# Altium schematic symbol library QUTMS-BMS-V00.SCHLIB: 59 symbols
Pins are listed as number, name and electrical type; pins without a type are passive.

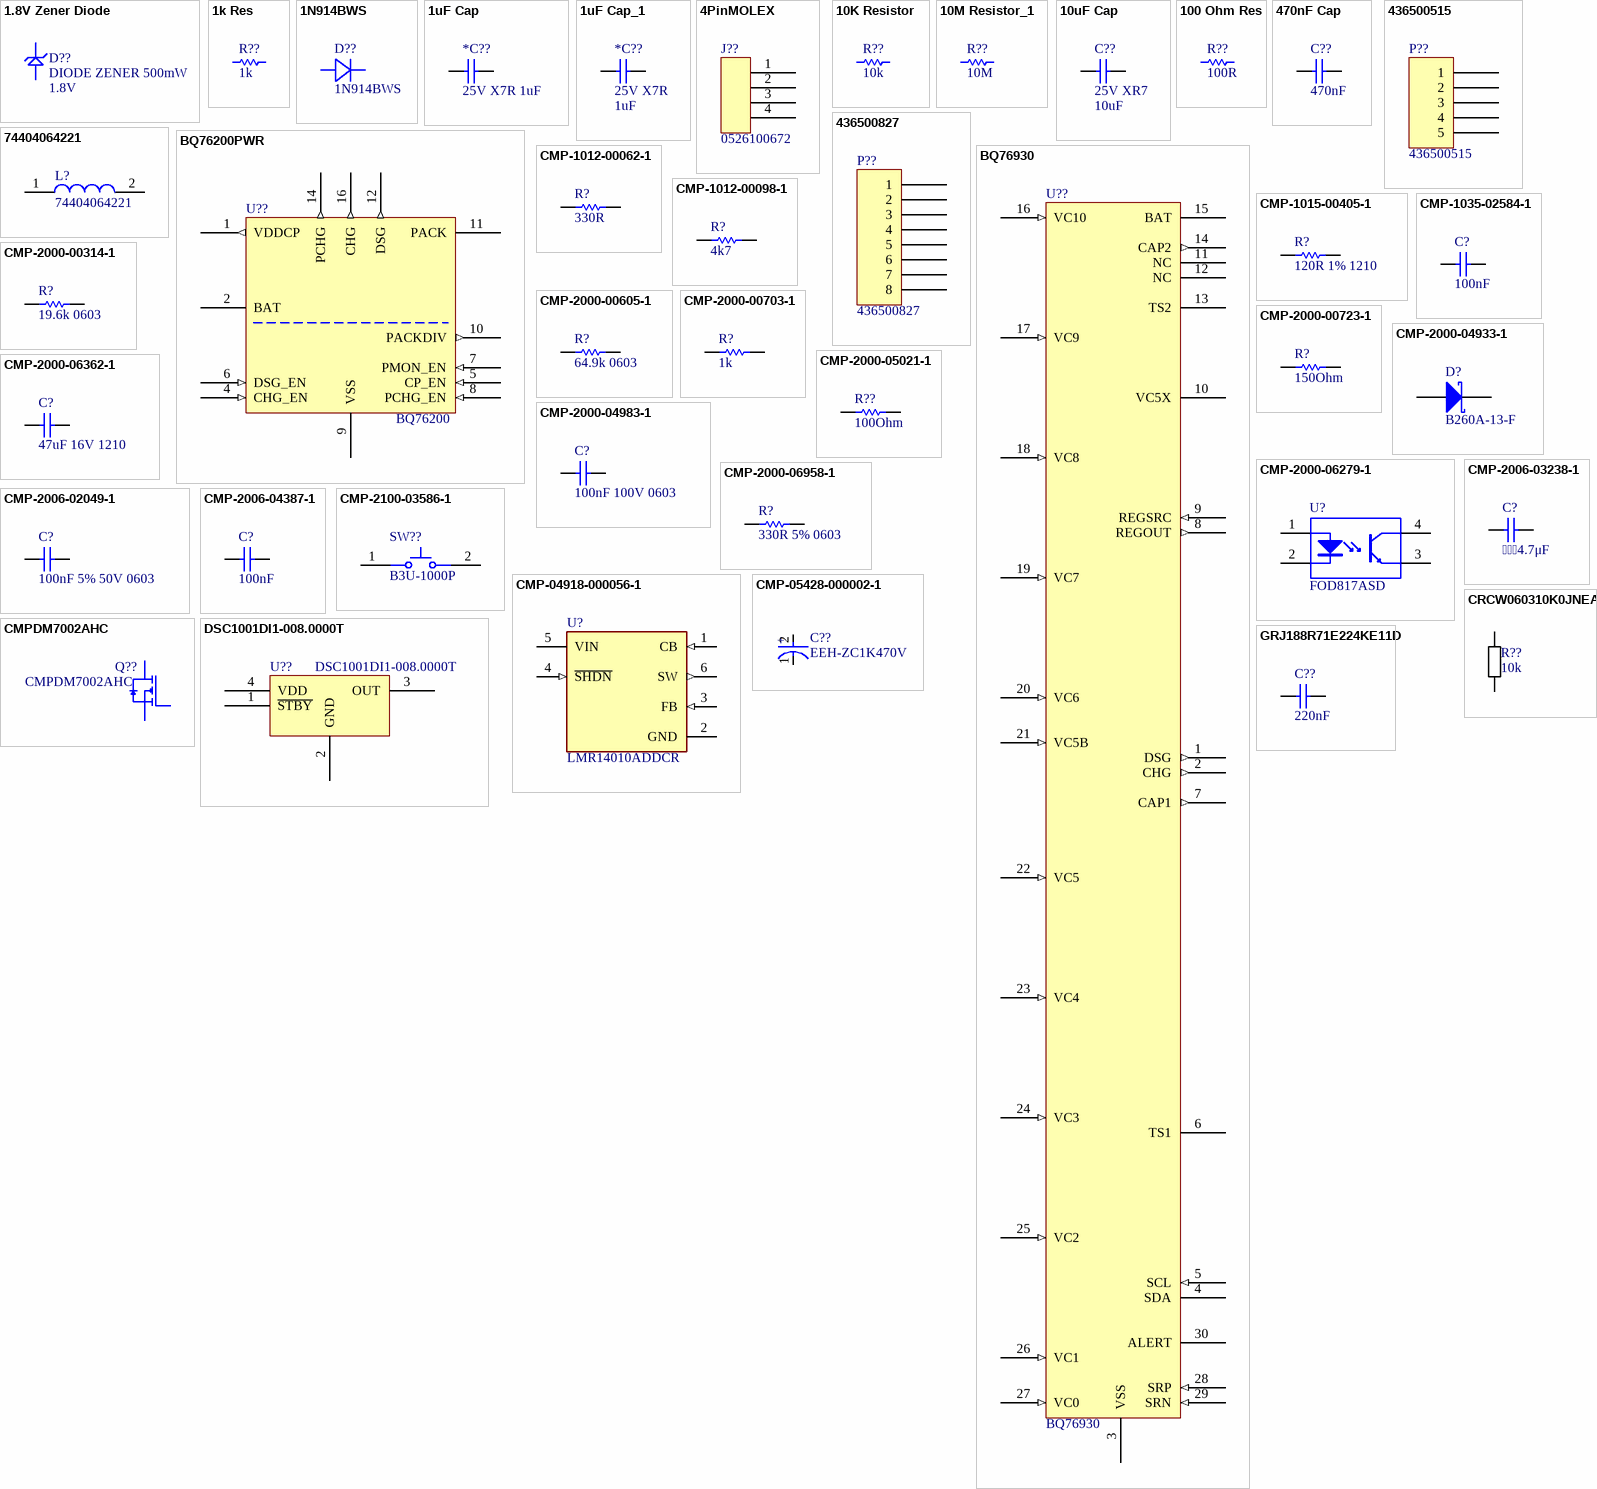
[diagram p0: symbols 1.8V Zener Diode to GRJ188R71E224KE11D]

## 1.8V Zener Diode
designator D??, comment DIODE ZENER 500mW  value 1.8V
Manufacturer: Generic; MPN: 1.8V 500mW
pins: A Anode, K Cathode

## 1k Res
designator R??, comment value 1k  (hidden comment: 1k Resistor)
1k Ohm Resistor 0603 SMD; Manufacturer: Generic; MPN: 0603 SMD
footprint Res_ThinFilm_0603
pins: 1, 2

## 1N914BWS
designator D??
DIODE GEN PURP 75V 150MA SOD323F; Manufacturer: ON Semiconductor / Fairchild; Element Configuration: Single; Forward Voltage: 1V; Max Reverse Leakage Current: 5uA; Power Dissipation: 200mW; Recovery Time: 4ns; Max Forward Surge Current (Ifsm): 4A; Parameter 1: *; Weight: 0.0276g; Average Rectified Current: 150mA; Category: Rectifier Diodes; Contact Plating: Tin,Matte; Forward Current: 150mA; Lead Free: Lead Free; Max Operating Temperature: 150°C; Max Repetitive Reverse Voltage (Vrrm): 75V; Max Reverse Voltage (DC): 75V; Min Operating Temperature: -55°C; Mount: Surface Mount; Number of Pins: 2; Package Quantity: 1; Packaging: Tape and Reel; Peak Reverse Current: 5uA; Radiation Hardening: No; REACH SVHC: No SVHC; Reverse Recovery Time: 4ns; Height: 1mm; Length: 1.8mm; Reverse Voltage: 75V; Width: 1.35mm; Manufacturer Part Number: 1N914BWS
footprint 1N914BWS (DIODE GEN PURP 75V 150MA SOD323F)
pins: A Anode, K Cathode

## 1uF Cap
designator *C??, comment 25V X7R 1uF
1UF CAP CER  25V X7R 0603; Manufacturer: Yageo; Manufacturer Part Number: CC0603KRX5R8BB105; Tolerance: 10%; Dielectric: X5R; Max Operating Temperature: 85°C; Min Operating Temperature: -55°C; Mount: Surface Mount; Package Quantity: 1; Packaging: Tape and Reel; Radiation Hardening: No; Thickness: 0.035inch; Voltage: 25V; Voltage Rating: 25V; Width: 0.031inch; Capacitance: 1uF; Case Code (Imperial): 0603; Case Code (Metric): 1608; Case/Package: 0603; Category: Ceramic Capacitors; Depth: 0.8mm; Halogen Free: Halogen Free; Height: 0.8mm; Lead Free: Lead Free; Length: 1.6mm; Number of Pins: 2; REACH SVHC: No SVHC; Termination: SMD/SMT; Voltage Rating (DC): 25V
pins: 0, 1

## 1uF Cap_1
designator *C??, comment 25V X7R  Capacitance: 1uF
1UF CAP CER  25V X7R 0603; Manufacturer: Yageo; Manufacturer Part Number: CC0603KRX5R8BB105; Tolerance: 10%; Dielectric: X5R; Max Operating Temperature: 85°C; Min Operating Temperature: -55°C; Mount: Surface Mount; Package Quantity: 1; Packaging: Tape and Reel; Radiation Hardening: No; Thickness: 0.035inch; Voltage: 25V; Voltage Rating: 25V; Width: 0.031inch; Case Code (Imperial): 0603; Case Code (Metric): 1608; Case/Package: 0603; Category: Ceramic Capacitors; Depth: 0.8mm; Halogen Free: Halogen Free; Height: 0.8mm; Lead Free: Lead Free; Length: 1.6mm; Number of Pins: 2; REACH SVHC: No SVHC; Termination: SMD/SMT; Voltage Rating (DC): 25V
pins: 0, 1

## 4PinMOLEX
designator J??, comment 0526100672
footprint 522710479 (Easy-On FFC/FPC Connector, 1.00mm Pitch, Slider Series, Right-Angle, Bottom Contact, 3.00mm Height, 6 Circuits, Tin-Bismuth Plating)
pins: 1 0, 2 1, 3 2, 4 3

## 10K Resistor
designator R??, comment 10k
10 kOhms ±5% 0.1W, 1/10W Chip Resistor 0603 (1608 Metric) Thick Film; Manufacturer: Vishay Dale; Manufacturer Part Number: CRCW060310K0JNEA; Max Power Dissipation: 100mW; Resistance: 10kR; Temperature Coefficient: 200ppm/°C; Voltage Rating: 75V; Case Code (Imperial): 0603; Case Code (Metric): 1608; Case/Package: 0603; Category: Chip SMD Resistors; Composition: Thick Film; Contact Plating: Tin; Depth: 0.85mm; Features: Automotive AEC-Q200; Height: 0.02inch; Lead Free: Lead Free; Length: 1.55mm; Max Operating Temperature: 155°C; Military Standard: Not; Min Operating Temperature: -55°C; Mount: Surface Mount; Number of Pins: 2; Number of Terminations: 2; Package Quantity: 1; Packaging: Tape and Reel; Power Rating: 100mW; Radiation Hardening: No; REACH SVHC: Unknown; Termination: SMD/SMT; Tolerance: 5%; Voltage Rating (DC): 75V; Weight: 7.1E-05oz; Width: 0.033inch
footprint Res_ThinFilm_0603
pins: 1, 2

## 10M Resistor_1
designator R??, comment 10M
10 MOhms ±5% 0.1W, 1/10W Chip Resistor 0603 (1608 Metric) Thick Film; Manufacturer: Vishay Dale; Manufacturer Part Number: CRCW060310K0JNEA; Max Power Dissipation: 100mW; Resistance: 10kR; Temperature Coefficient: 200ppm/°C; Voltage Rating: 75V; Case Code (Imperial): 0603; Case Code (Metric): 1608; Case/Package: 0603; Category: Chip SMD Resistors; Composition: Thick Film; Contact Plating: Tin; Depth: 0.85mm; Features: Automotive AEC-Q200; Height: 0.02inch; Lead Free: Lead Free; Length: 1.55mm; Max Operating Temperature: 155°C; Military Standard: Not; Min Operating Temperature: -55°C; Mount: Surface Mount; Number of Pins: 2; Number of Terminations: 2; Package Quantity: 1; Packaging: Tape and Reel; Power Rating: 100mW; Radiation Hardening: No; REACH SVHC: Unknown; Termination: SMD/SMT; Tolerance: 5%; Voltage Rating (DC): 75V; Weight: 7.1E-05oz; Width: 0.033inch
footprint Res_ThinFilm_0603
pins: 1, 2

## 10uF Cap
designator C??, comment 25V XR7  value 10uF
10uF 25V XR7; MPN: 25V XR7 10uF 0603; Mnaufacturer: Generic
footprint Cap_Ceramic_0603
pins: 0, 1

## 100 Ohm Res
designator R??, comment 100R
100 Ohm Res; Manufacturer: Generic; MPN: Resistor, SMD 10k 1% 0603; Value: 100R
footprint Res_ThinFilm_0603
pins: 1, 2

## 470nF Cap
designator C??, comment 470nF
pins: 0, 1

## 436500515
designator P??
pins: 1, 2, 3, 4, 5

## 436500827
designator P??
Micro-Fit 3.0 Vertical Header, 3.00mm Pitch, Single Row, 8 Circuits, with PCB Polarizing Peg, Tin, Glow-Wire Capable, Black
pins: 1, 2, 3, 4, 5, 6, 7, 8

## 74404064221
designator L?
FIXED IND 220UH 660MA 850 MOHM; ComponentLink1Description: Digikey; ComponentLink1URL: https://www.digikey.com.au/product-detail/en/w%C3%BCrth-elektronik/74404064221/732-7261-1-ND/5353241; ComponentLink2Description: LCSC A; ComponentLink2URL: https://lcsc.com/product-detail/Power-Inductors_Sunlord-SWPA6045S221MT_C91047.html; ComponentLink3Description: LCSC B; ComponentLink3URL: https://lcsc.com/product-detail/Power-Inductors_SXN-Shun-Xiang-Nuo-Elec-SMNR6045-221MT_C467145.html
footprint Inductor_6x6mm
pins: 1, 2

## BQ76200PWR
designator U??, comment BQ76200
High-voltage battery pack front-end charge/discharge high-side NFET driver; MPN: BQ76200PWR; Manufacturer: Texas Instruments
footprint TSSOP16
pins: 1 VDDCP (out), 2 BAT, 4 CHG_EN (in), 5 CP_EN (in), 6 DSG_EN (in), 7 PMON_EN (in), 8 PCHG_EN (in), 9 VSS, 10 PACKDIV (out), 11 PACK, 12 DSG (out), 14 PCHG (out), 16 CHG (out)

## BQ76930
designator U??
Battery Monitoring/Fuel Gauge Li-Ion/Li-Polymer/LiFePO4 0V to 16V 30-Pin TSSOP T/R; InternalPart: Test1234; Manufacturer: Texas Instruments; Manufacturer Part Number: BQ7693003DBTR; Operating Supply Voltage: 25V; Interface: I2C; Fault Protection: Over Current,Short Circuit,Over/Under Voltage; Supplier 1: Digi-Key; RoHS: Yes; Category: Battery Management; Stock 1: 4521; Pricing 1: 1=4.66000, 10=4.18900, 25=3.96000, 100=3.25600, 250=2.92160, 500=2.81600, 1000=2.34080 (USD); Mount: Surface Mount; Case/Package: TFSOP; Number of Pins: 30; Weight: 0.003439oz; Contact Plating: Gold; Min Operating Temperature: -40°C; Max Operating Temperature: 85°C; Output Voltage: 16V; Packaging: Tape and Reel; Package Quantity: 2000; Lead Free: Lead Free; ComponentLink1URL: http://www.ti.com/lit/gpn/bq76930?src-supplier=Mouser; ComponentLink1Description: http://www.ti.com/lit/gpn/bq76930?src-supplier=Mouser; ComponentLink2URL: http://www.ti.com/lit/ds/symlink/bq76930.pdf?src-supplier=Digi-Key; ComponentLink2Description: http://www.ti.com/lit/ds/symlink/bq76930.pdf?src-supplier=Digi-Key; ComponentLink3URL: http://www.ti.com/lit/pdf/slpt038?src-supplier=Digi-Key; ComponentLink3Description: http://www.ti.com/lit/pdf/slpt038?src-supplier=Digi-Key; ComponentLink4URL: http://www.ti.com/general/docs/lit/getliterature.tsp?genericPartNumber=BQ76920&amp;&amp;fileType=pdf&src-supplier=Avnet+Asia; ComponentLink4Description: http://www.ti.com/general/docs/lit/getliterature.tsp?genericPartNumber=BQ76920&amp;&amp;fileType=pdf&src-supplier=Avnet+Asia; ComponentLink5URL: http://www.ti.com/general/docs/lit/getliterature.tsp?genericPartNumber=BQ76920&&fileType=pdf&src-supplier=Avnet; ComponentLink5Description: http://www.ti.com/general/docs/lit/getliterature.tsp?genericPartNumber=BQ76920&&fileType=pdf&src-supplier=Avnet; Supplier Part Number 1: 296-39961-1-ND
footprint TSSOP50P640X120-30N (TSSOP, 30-Leads, Body 7.80x4.40mm, Pitch 0.50mm, IPC Medium Density)
pins: 1 DSG (out) "Discharge FET driver", 2 CHG (out) "Charge Fet driver", 3 VSS (power) "Chip VSS", 4 SDA "I2C communication to the host controller", 5 SCL (in) "I2C communication to the host controller", 6 TS1 "Thermister #1 positive terminal", 7 CAP1 (out) "Capacitor to VSS", 8 REGOUT (out) "Output LDO", 9 REGSRC (in) "Input source for output LDO", 10 VC5X (power) "Thermistor #2 negative terminal", 11 NC (power) "No connect (short to cap2)", 12 NC (power) "No connect (short to cap2)", 13 TS2 "Thermister #2 positive terminal", 14 CAP2 (out) "Capacitor to VC5X", 15 BAT (power) "Battery Top Most terminal", 16 VC10 (in) "Sense voltage for 10th cell positive terminal", 17 VC9 (in) "Sense voltage for 9th cell positive terminal", 18 VC8 (in) "Sense voltage for 8th cell positive terminal", 19 VC7 (in) "Sense voltage for 7th cell positive terminal", 20 VC6 (in) "Sense voltage for 6th cell positive terminal", 21 VC5B (in) "Sense voltage for 6th cell negative terminal", 22 VC5 (in) "Sense voltage for 5th cell positive terminal", 23 VC4 (in) "Sense voltage for 4th cell positive terminal", 24 VC3 (in) "Sense voltage for 3rd cell positive terminal", 25 VC2 (in) "Sense voltage for 2nd cell positive terminal", 26 VC1 (in) "Sense voltage for 1st cell positive terminal", 27 VC0 (in) "Sense voltage for 1st cell negative terminal", 28 SRP (in) "Negative current sense (nearest VSS)", 29 SRN (in) "Positive current sense", 30 ALERT "Alert ouput and override input"

## CMP-1012-00062-1
designator R?, comment 330R
330R 0.1W 5% 0603 (1608 Metric)  SMD; Manufacturer: Vishay; Manufacturer Part Number: CRCW0603330RJNEA; Manufacturer: Bourns; Manufacturer Part Number: CR0603-JW-331ELF; Manufacturer: Vishay Dale; Manufacturer Part Number: CRCW0603330RJNEB; Manufacturer: Yageo; Manufacturer Part Number: RC0603JR-07330RL; Manufacturer Part Number: CRCW0603330RJNEC; Manufacturer Part Number: CRCW0603330RJNTB; Manufacturer: Panasonic; Manufacturer Part Number: ERJ-3GEYJ331V; Manufacturer Part Number: CRCW0603330RJNTA; Value: 330.00 Ohm; Case-EIA: 0603; Case-Metric: 1608; Tolerance: 5 %; Power: 0.1 W; Technology: SMT
footprint RESC0603(1608)_L (Chip Resistor, Body 1.6x0.8mm, IPC High Density)
footprint RESC0603(1608)_M (Chip Resistor, Body 1.6x0.8mm, IPC Low Density)
footprint RESC0603(1608)_N (Chip Resistor, Body 1.6x0.8mm, IPC Medium Density)
pins: 1, 2
1 alternate drawing of the same symbol

## CMP-1012-00098-1
designator R?, comment 4k7
10K 0.1W 5% 0603 (1608 Metric)  SMD; Manufacturer: Bourns; Manufacturer Part Number: CR0603-JW-103ELF; Manufacturer: Vishay Dale; Manufacturer Part Number: CRCW060310K0JNTB; Manufacturer Part Number: CRCW060310K0JNTC; Manufacturer Part Number: CRCW060310K0JNEC; Manufacturer Part Number: CRCW060310K0JNTA; Manufacturer: Yageo; Manufacturer Part Number: RC0603JR-0710KL; Manufacturer Part Number: CRCW060310K0JNEA; Manufacturer: Panasonic; Manufacturer Part Number: ERJ-3GEYJ103V; Manufacturer Part Number: CRCW060310K0JNEB; Case-EIA: 0603; Value: 10000.00 Ohm; Case-Metric: 1608; Technology: SMT; Tolerance: 5 %; Power: 0.1 W
footprint RESC0603(1608)_N (Chip Resistor, Body 1.6x0.8mm, IPC Medium Density)
footprint RESC0603(1608)_L (Chip Resistor, Body 1.6x0.8mm, IPC High Density)
footprint RESC0603(1608)_M (Chip Resistor, Body 1.6x0.8mm, IPC Low Density)
pins: 1, 2
1 alternate drawing of the same symbol

## CMP-1015-00405-1
designator R?, comment 120R 1% 1210
120R 0.5W 1% 1210 (3225 Metric)  SMD; Manufacturer: Vishay; Manufacturer Part Number: CRCW1210120RFKEA; Manufacturer: Yageo; Manufacturer Part Number: RC1210FR-07120RL; Manufacturer: Vishay Dale; Manufacturer Part Number: CRCW1210120RFKTA; Manufacturer: Panasonic; Manufacturer Part Number: ERJ-14NF1200U; Case-Metric: 3225; Value: 120.00 Ohm; Case-EIA: 1210; Technology: SMT; Tolerance: 1 %; Power: 0.5 W
footprint RESC1210(3225)_M (Chip Resistor, Body 3.2x2.5mm, IPC Low Density)
footprint RESC1210(3225)_L (Chip Resistor, Body 3.2x2.5mm, IPC High Density)
footprint RESC1210(3225)_N (Chip Resistor, Body 3.2x2.5mm, IPC Medium Density)
pins: 1, 2
1 alternate drawing of the same symbol

## CMP-1035-02584-1
designator C?, comment 100nF
CAP 100nF 16V ±10% 0603 (1608 Metric) Thickness 1mm SMD; Manufacturer: TDK; Manufacturer Part Number: C1608X7R1C104K; Manufacturer: Vishay; Manufacturer Part Number: VJ0603Y104KXJCW1BC; Manufacturer: Kyocera AVX; Manufacturer Part Number: 0603YC104KAT7A; Manufacturer Part Number: 0603YC104KAT9A; Manufacturer: Vishay Vitramon; Manufacturer Part Number: VJ0603Y104KXJPW1BC; Manufacturer Part Number: 0603YC104KAT2A; Manufacturer: KEMET; Manufacturer Part Number: C0603C104K4RACTU; Manufacturer Part Number: VJ0603Y104KNJAO; Manufacturer: Yageo; Manufacturer Part Number: CC0603KRX7R7BB104; Manufacturer Part Number: C0603C104K4RACTM; Manufacturer Part Number: VJ0603Y104KXJAP; Manufacturer Part Number: VJ0603Y104KXJAC; Manufacturer Part Number: CC0603KPX7R7BB104; Manufacturer Part Number: 0603YC104KAT4A; Manufacturer Part Number: C0603C104K4RAC; Tolerance: Â±10%; Case-EIA: 0603; Case-Metric: 1608; Technology: SMT; Max Thickness: 1 mm; Value: 100nF; Rated Voltage: 16 V
footprint CAPC0603(1608)100_N (Chip Capacitor, Body 1.6x0.8mm, Height 1.0mm, IPC Medium Density)
footprint CAPC0603(1608)100_L (Chip Capacitor, Body 1.6x0.8mm, Height 1.0mm, IPC High Density)
footprint CAPC0603(1608)100_M (Chip Capacitor, Body 1.6x0.8mm, Height 1.0mm, IPC Low Density)
pins: 1, 2
1 alternate drawing of the same symbol

## CMP-2000-00314-1
designator R?, comment 19.6k 0603
Part Number: ERJ-3EKF1962V; Manufacturer: Panasonic; Manufacturer Part Number: ERJ3EKF1962V
footprint RESC1608X55X30ML15T15 (Chip Resistor, 2-Leads, Body 1.60x0.80mm, IPC Low Density)
footprint RESC1608X55X30NL15T15 (Chip Resistor, 2-Leads, Body 1.60x0.80mm, IPC Medium Density)
footprint RESC1608X55X30LL15T15 (Chip Resistor, 2-Leads, Body 1.60x0.80mm, IPC High Density)
pins: 1, 2
1 alternate drawing of the same symbol

## CMP-2000-00605-1
designator R?, comment 64.9k 0603
Part Number: ERJ-3EKF6492V; Manufacturer: Panasonic; Manufacturer Part Number: ERJ-3EKF6492V
footprint RESC1608X55X30ML15T15 (Chip Resistor, 2-Leads, Body 1.60x0.80mm, IPC Low Density)
footprint RESC1608X55X30NL15T15 (Chip Resistor, 2-Leads, Body 1.60x0.80mm, IPC Medium Density)
footprint RESC1608X55X30LL15T15 (Chip Resistor, 2-Leads, Body 1.60x0.80mm, IPC High Density)
pins: 1, 2
1 alternate drawing of the same symbol

## CMP-2000-00703-1
designator R?, comment 1k
Part Number: ERJ-3GEYJ102V; Manufacturer: Panasonic; Manufacturer Part Number: ERJ-3GEYJ102V
footprint RESC1608X55X30ML15T15 (Chip Resistor, 2-Leads, Body 1.60x0.80mm, IPC Low Density)
footprint RESC1608X55X30NL15T15 (Chip Resistor, 2-Leads, Body 1.60x0.80mm, IPC Medium Density)
footprint RESC1608X55X30LL15T15 (Chip Resistor, 2-Leads, Body 1.60x0.80mm, IPC High Density)
pins: 1, 2
1 alternate drawing of the same symbol

## CMP-2000-00723-1
designator R?, comment 150Ohm
Part Number: ERJ-3GEYJ151V; Manufacturer: Panasonic; Manufacturer Part Number: ERJ-3GEYJ151V
footprint RESC1608X55X30NL15T15 (Chip Resistor, 2-Leads, Body 1.60x0.80mm, IPC Medium Density)
footprint RESC1608X55X30LL15T15 (Chip Resistor, 2-Leads, Body 1.60x0.80mm, IPC High Density)
footprint RESC1608X55X30ML15T15 (Chip Resistor, 2-Leads, Body 1.60x0.80mm, IPC Low Density)
pins: 1, 2
1 alternate drawing of the same symbol

## CMP-2000-04933-1
designator D?, comment B260A-13-F
Schottky Barrier Rectifier, 60 V, 2 A, -65 to 150 degC, 2-Pin SMA, RoHS, Tape and Reel; Manufacturer: Diodes; If - Forward Current: 2A; Vf - Forward Voltage: 0.7V; Ir - Reverse Current: 500uA; Configuration: Single; Unit Weight: 0.002258oz; Brand: DiodesIncorporated; Vrrm - Repetitive Reverse Voltage: 60V; Ifsm - Forward Surge Current: 50A; Product Category: SchottkyDiodes&Rectifiers; Datasheet Version: Rev. 22-2, 07/2015; Maximum Operating Temperature: +150C; Product: SchottkyDiodes; Minimum Operating Temperature: -65C; Operating Temperature Range: -65Cto+150C; Termination Style: SMD/SMT; Package / Case: SMA; Factory Pack Quantity: 5000; Technology: Si; Height: 2.1mm; Type: SchottkyBarrierRectifier; Manufacturer URL: http://www.diodes.com/; Datasheet URL: http://www.diodes.com/_files/datasheets/ds13004.pdf; RoHS: True; Mounting Style: SMD/SMT; Length: 4.6mm; Series: B260; Package Reference: SMA-2; Packaging: Reel; Width: 2.92mm; Manufacturer: DiodesIncorporated; Package Description: 2-Pin Surface Mounted Assembly, Body 4.3 x 2.605 mm, Height 2.4 mm; Manufacturer Part Number: B260A-13-F
footprint DIOD-SMA-2_V
pins: 1 A, 2 K

## CMP-2000-04983-1
designator C?, comment 100nF 100V 0603
Chip Capacitor, 100 nF, +/- 10%, 100 V, -55 to 125 degC, 0603 (1608 Metric), RoHS, Tape and Reel; PCN Part Number: MLCCPartNumberChange30/Nov/2012; Manufacturer: TDK; Manufacturer Part Number: CGA3E3X7S2A104K080AB; Capacitance: 0.1µF; Kits: 445-9007-KIT-ND-KITCAPCERAUTO100V-600VSMD445-9006-KIT-ND-KITCAPCERAUTO100V-630VSMDSAMPLEKIT1006-ND-KITCAPCERAUTO100V-630V; Online Catalog: CGASeries,AutomotiveGeneral,MidandHighVoltage; Product Training Modules: CGASeriesforAutomotiveApplicationsSEAT,CCV,andTVCLDesignToolsGuidetoReplacinganElectrolyticCapacitorwithanMLCC; Featured Product: CGASeriesMLCCCapacitors; Other Names: 445-6938-1; Temperature Coefficient: X7S; RoHS Information: RoHSCertificate-MLCC; Package / Case: 0603(1608Metric); Mounting Type: SurfaceMount,MLCC; Size / Dimension: 0.063"Lx0.031"W(1.60mmx0.80mm); Applications: Automotive; Series: CGA; Package Reference: 603; Voltage - Rated: 100V; Lead Style: -; Datasheet URL: https://ciiva.com/datasheet-click-20384029?src=ciiva&sig=1463c8bc; Thickness (Max): 0.035"(0.90mm); Ratings: AEC-Q200; Standard Package: 1; Features: -; Family: CeramicCapacitors; Category: Capacitors; Tolerance: ±10%; Datasheet Version: Jan-16; Operating Temperature: -55degC~125degC; Manufacturer URL: http://www.tdk.com/; Packaging: CutTape(CT); Lead Spacing: -; Package Description: 2-Pin Surface Mount Device, Body 1.6 x 0.8 mm; Height - Seated (Max): -
footprint CAPC1608X90X20ML10 (Chip Capacitor, 2-Leads, Body 1.70x0.90mm, IPC Low Density)
footprint CAPC1608X90X20NL10 (Chip Capacitor, 2-Leads, Body 1.70x0.90mm, IPC Medium Density)
footprint CAPC1608X90X20LL10
pins: 1, 2

## CMP-2000-05021-1
designator R??, comment 100Ohm
Chip Resistor, 100 Ohm, +/- 5%, 50 V, 0603 (1608 Metric), RoHS, Tape and Reel; Manufacturer: Yageo; Manufacturer Part Number: RC0603JR-07100RL; Temperature Coefficient: 100PPM/C; Resistance: 100Ohms; Power Rating: 100mW; Voltage Rating: 50V; Manufacturer URL: http://www.yageo.com/; Product: ThickFilmResistorsGeneralPurpose; Package Description: 2-Pin Surface Mount Device, Body 1.6 x 0.8 mm; Tolerance: 5%; Termination Style: SMD/SMT; Datasheet URL: http://www.farnell.com/datasheets/443971.pdf; Operating Temperature Range: -55Cto+155C; Packaging: Reel; Case Code - in: 0603; Package Reference: 603; Series: RC; Case Code - mm: 1608; Datasheet Version: Rev. 4, 04/2009
footprint RESC1608X55X25ML10T15 (Chip Resistor, 2-Leads, Body 1.60x0.80mm, IPC Low Density)
footprint RESC1608X55X25NL10T15 (Chip Resistor, 2-Leads, Body 1.70x0.90mm, IPC Medium Density)
footprint RESC1608X55X25LL10T15 (Chip Resistor, 2-Leads, Body 1.60x0.80mm, IPC High Density)
pins: 1, 2

## CMP-2000-06279-1
designator U?, comment FOD817ASD
Phototransistor Optocoupler, 4 us Rise, 3 us Fall, 5000 Vrms, -55 to 110 degC, 4-Pin MDIP, RoHS, Tape and Reel; Manufacturer: Fairchild Semiconductor; Manufacturer: ON Semiconductor / Fairchild; Maximum Input Current: 50mA; Maximum Forward Voltage: 1.4V; Maximum Reverse Voltage: 6V; Product Width: 7mm(Max); Input Type: DC; Maximum Current Transfer Ratio: 160%; Maximum Rise Time: 18us; Typical Rise Time: 4us; Typical Forward Voltage: 1.2V; Product Length: 5.1mm(Max); Package Version: 10/2014; Maximum Collector Emitter Saturation Voltage: 200mV; Number of Channels per Chip: 1; Product Height: 4mm(Max); Maximum Power Dissipation: 200mW; Typical Fall Time: 3us; Maximum Collector Emitter Voltage: 70V; Pin_Count: 4; Minimum Current Transfer Ratio: 80%; Output Device: Transistor; Manufacturer URL: https://www.fairchildsemi.com/; Family: FOD817; Supplier_Package: PDIPSMDBlack; Datasheet URL: https://www.fairchildsemi.com/datasheets/FO/FOD817.pdf; Package Description: 4-Pin Surface Mount Device, Body 6.5 x 4.6 mm, Pitch 2.54 mm; Mounting Technology: SurfaceMount; Package Reference: MDIP 4L; Maximum Operating Temperature: 110C; Mounting: SurfaceMount; Maximum Fall Time: 18us; Package URL: https://www.fairchildsemi.com/package-drawings/N0/N04C.pdf; Product Type: TransistorandPhotovoltaicOutputPhotoCouplers; Datasheet Version: Rev. 2.8, 11/2015; Minimum Operating Temperature: -55C; Maximum Collector Current: 50mA; Packaging: TapeandReel; Minimum Isolation Voltage: 5000Vrms; Output Type: DC; Manufacturer Part Number: FOD817ASD
footprint FAIR-MDIP-4_V (SMD, 4-Leads, Body 6.5x4.6mm, Pitch 2.54mm)
pins: 1 ANODE, 2 CATHODE, 3 EMITTER, 4 COLLECTOR

## CMP-2000-06362-1
designator C?, comment 47uF 16V 1210
Cap Ceramic, 47 uF, +/- 10%, -55 to 85 degC, 2-Pin SMD (1210), RoHS, Tape and Reel; Manufacturer: Murata; Manufacturer Part Number: GRM32ER61C476KE15L; Catalog Drawings: GRMSeries_1210_2.5; Capacitance: 47µF; Product Training Modules: High-CapMultilayerCeramicCapacitors; Temperature Coefficient: X5R; Online Catalog: GRMSeries; Other Names: 490-6539-6; Lead Style: -; Voltage Rating DC: 16V; Datasheet URL: http://psearch.en.murata.com/capacitor/product/GRM32ER61C476KE15%23.pdf; Package Description: 2-Pin Surface Mount Device, Body 3.2 x 2.5 mm; Applications: GeneralPurpose; Thickness (Max): 0.106"(2.70mm); Operating Temperature: -55°C~85°C; Mounting Technology: SurfaceMount; Category: Capacitors; Package / Case: 1210(3225Metric); Mounting Type: SurfaceMount,MLCC; Ratings: -; Package Reference: 1210; Height - Seated (Max): -; Series: GRM; Lead Spacing: -; Family: CeramicCapacitors; Datasheet Version: 04/2016; Tolerance: ±10%; Size / Dimension: 0.126"Lx0.098"W(3.20mmx2.50mm); Packaging: Digi-Reel®; Voltage - Rated: 16V; Standard Package: 1; Features: -; Manufacturer URL: http://www.murata.com/
footprint MURA-1210_H_2.7_L (Chip Capacitor, 2-Leads, Body 3.5x2.7mm, IPC High Density)
footprint MURA-1210_H_2.7_M (Chip Capacitor, 2-Leads, Body 3.5x2.7mm, IPC Low Density)
footprint MURA-1210_H_2.7_N (Chip Capacitor, 2-Leads, Body 3.5x2.7mm, IPC Medium Density)
pins: 1, 2

## CMP-2000-06958-1
designator R?, comment 330R 5% 0603
Chip Resistor, 330 Ohm, +/- 5%, 50 V, -55 to 155 degC, 0603 (1608 Metric), -40 to 155 degC, RoHS, Tape and Reel; Manufacturer: Yageo; Manufacturer Part Number: RC0603JR-07330RL; Temperature Coefficient: ±100ppm/°C; Power Rating: 100mW; Voltage Rating: 50V; Product Range: RCSeries; SVHC: ToBeAdvised; Resistance: 330ohm; Resistor Element Type: ThickFilm; Resistor Case Style: 0603[1608Metric]; Manufacturer URL: http://www.yageo.com/; Packaging: CutTape; Mounting Technology: SurfaceMount; Automotive Qualification Standard: -; MSL: MSL1-Unlimited; Datasheet URL: http://www.yageo.com/documents/recent/PYu-RC_Group_51_RoHS_L_7.pdf; Package Reference: 0603; Package Description: 2-Pin Surface Mount Device, Body 1.6 x 0.8 mm; Resistance Tolerance: ±5%; Datasheet Version: Rev. 7, 05/2017
footprint RESC1608X55X25LL10T15 (Chip Resistor, 2-Leads, Body 1.60x0.80mm, IPC High Density)
footprint RESC1608X55X25ML10T15 (Chip Resistor, 2-Leads, Body 1.70x0.90mm, IPC Low Density)
footprint RESC1608X55X25NL10T15 (Chip Resistor, 2-Leads, Body 1.70x0.90mm, IPC Medium Density)
pins: 1, 2

## CMP-2006-02049-1
designator C?, comment 100nF 5% 50V 0603
Manufacturer: AVX Interconnect / Elco; Part Number: 06035C104JAT2A; Manufacturer: Kyocera AVX; Manufacturer Part Number: 06035C104JAT2A
footprint CAPC1608X90X35NL15T15 (Chip Capacitor, 2-Leads, Body 1.60x0.81mm, IPC Medium Density)
footprint CAPC1608X90X35ML15T15 (Chip Capacitor, 2-Leads, Body 1.60x0.81mm, IPC Low Density)
footprint CAPC1608X90X35LL15T15 (Chip Capacitor, 2-Leads, Body 1.60x0.81mm, IPC High Density)
pins: 1, 2
1 alternate drawing of the same symbol

## CMP-2006-03238-1
designator C?, comment 4.7μF
Part Number: C0603C475K8PACTU; Manufacturer: Kemet; Manufacturer: KEMET; Manufacturer Part Number: C0603C475K8PACTU
footprint CAPC1608X87X35NL15T15 (Chip Capacitor, 2-Leads, Body 1.60x0.80mm, IPC Medium Density)
footprint CAPC1608X87X35LL15T15 (Chip Capacitor, 2-Leads, Body 1.60x0.80mm, IPC High Density)
footprint CAPC1608X87X35ML15T15 (Chip Capacitor, 2-Leads, Body 1.60x0.80mm, IPC Low Density)
pins: 1, 2
1 alternate drawing of the same symbol

## CMP-2006-04387-1
designator C?, comment 100nF
Manufacturer: AVX Interconnect / Elco; Part Number: 06035C104K4T4A; Manufacturer: Kyocera AVX; Manufacturer Part Number: 06035C104K4T4A
footprint CAPC1608X90X35LL15T15 (Chip Capacitor, 2-Leads, Body 1.60x0.81mm, IPC High Density)
footprint CAPC1608X90X35ML15T15 (Chip Capacitor, 2-Leads, Body 1.60x0.81mm, IPC Low Density)
footprint CAPC1608X90X35NL15T15 (Chip Capacitor, 2-Leads, Body 1.60x0.81mm, IPC Medium Density)
pins: 1, 2
1 alternate drawing of the same symbol

## CMP-2100-03586-1
designator SW??, comment B3U-1000P
Ultra-Small Tactile Switch, 0.05 A, 12 V, -25 to 70 degC, 2-Pin SMD, RoHS, Tape and Reel; Manufacturer: Omron Electronic Components; Manufacturer: Omron; Operating Force: 1.5N; Current Rating: 50mA; Voltage Rating (DC): 12V; Electrical Life: 200000Cycles; Actuator Length: 0.4mm; Insulation Resistance: 100MOhm; Switch Travel: 0.15mm; Throw Configuration: SPST; Illumination Type: Illuminated; Width: 3mm; Weight: 0.022g; Datasheet Version: 42005.0; Datasheet URL: http://www.omron.com/ecb/products/pdf/en-b3u.pdf; Height: 1.2mm; Package Quantity: 1; REACH SVHC: Unknown; Contact Current Rating: 50mA; Contact Material: Silver; Max Current Rating: 50mA; Package Reference: B3U-1000; Termination: SMD/SMT; Packaging: TapeandReel; Manufacturer URL: http://www.omron.com/; RoHSCompliant: true; Mount: SurfaceMount; Length: 4mm; Min Operating Temperature: -25degC; Depth: 2.5mm; Lead Free: LeadFree; Case/Package: SMD/SMT; Package Description: 2-Pin Surface Mount Device, Body 3 x 2.5 mm; Max Operating Temperature: 70degC; Orientation: Straight; Manufacturer Part Number: B3U-1000P
footprint OMRON-B3U-1000_V (SMD, 2-Leads, Body 3x2.5mm)
pins: 1, 2

## CMP-04918-000056-1
designator U?, comment LMR14010ADDCR
IC REG BUCK ADJ 1A TSOT23-6; Manufacturer: Texas Instruments; Max Junction Temp: +125°C; Number Of Outputs: 1; Standoff Height: 0mm; Switching Frequency: 700kHz; Min Supply Voltage: 4V; Max Supply Voltage: 40V; Max Duty Cycle: 96%; Output Type: AdjustableProgrammable; Manufacturer Part Number: LMR14010ADDCR; Temperature: -40°C to +125°C; Output Current: 1A; Category: IC; Temperature Range High: +125°C; Lead Free: Yes; Switching Topology: Buck; Mouser Description: 4-V to 40-V, 1-A Step-Down Converter With High Efficiency Eco-Mode 6-SOT-23-THIN -40 to 125; Device Class L1: Integrated Circuits (ICs); Digikey Description: IC REG BUCK ADJ 1A TSOT23-6; Package: DDC0006A; Ipc Land Pattern Name: SOT95P280X110-6; Device Class L2: Power Management ICs; Temperature Range Low: -40°C; Height: 1.1mm; Device Class L3: Voltage Regulators - Switching; RoHS: TRUE; Automotive: No; Octopart: https://octopart.com/lmr14010addcr-texas+instruments-90753290; ComponentLink2URL: https://www.ti.com/lit/ds/symlink/lmr14010a.pdf; ComponentLink2Description: Datasheet
footprint FP-DDC0006A-MFG
footprint FP-DDC0006A-IPC_C
footprint FP-DDC0006A-IPC_B
footprint FP-DDC0006A-IPC_A
pins: 1 CB (in), 2 GND (power), 3 FB (in), 4 ~{SHDN} (in), 5 VIN (power), 6 SW (out)

## CMP-05428-000002-1
designator C??, comment EEH-ZC1K470V
CAP ALUM POLY 47UF 20% 80V SMD; Manufacturer: Panasonic; Leakage Current: 37.6uA; Life: 100000Hours; Standoff Height: 0mm; Esr: 36mΩ; Material: Polymer; Dissipation Factor: 8%; Automotive Grade: Grade 1; Ripple Current: 1360mA; Footprint Url: https://industrial.panasonic.com/cdbs/www-data/pdf/RDD0000/DMD0000COL4.pdf; Digikey Description: CAP ALUM POLY 47UF 20% 80V SMD; Device Class L1: Passive Components; Category: Cap; Tolerance: 20%; Value: 47uF; Manufacturer Part Number: EEH-ZC1K470V; Device Class L3: Polymer Capacitors; Temperature Range Low: -55°C; RoHS: TRUE; Package: ZCG-V; Octopart: https://octopart.com/eeh-zc1k470v-panasonic-75386549; Device Class L2: Capacitors; Capacitance: 47uF; Voltage Rating: 80V; ComponentLink2Description: Datasheet; Temperature: -55°C to +125°C; Automotive: Yes; Temperature Range High: +125°C; Lead Free: Yes; ComponentLink2URL: https://industrial.panasonic.com/cdbs/www-data/pdf/RDD0000/ABA0000C1234.pdf; Mouser Description: Cap Aluminum 47uF 80V 20% (10 X 10.5mm) Cylindrical 0.036 Ohm 1360mA 4000 hr 125°C Emboss T/R; Height: 10.8mm
footprint FP-ZCG-V-MFG
pins: 1 C, 2 A
text: +

## CMPDM7002AHC
designator Q??
MOSFET N-CH, 20V, SOT23
footprint CMPDM7002AHC (SOT23, 3-Leads, Body 2.90x2.30mm, Pitch 0.95mm, IPC Medium Density)
pins: D Drain, G Gate, S Source

## CRCW060310K0JNEAC
designator R??, comment 10k
10 kOhms ±5% 0.1W, 1/10W Chip Resistor 0603 (1608 Metric) Thick Film; Manufacturer: Vishay Dale; Manufacturer Part Number: CRCW060310K0JNEA; Max Power Dissipation: 100mW; Resistance: 10kR; Temperature Coefficient: 200ppm/°C; Voltage Rating: 75V; Case Code (Imperial): 0603; Case Code (Metric): 1608; Case/Package: 0603; Category: Chip SMD Resistors; Composition: Thick Film; Contact Plating: Tin; Depth: 0.85mm; Features: Automotive AEC-Q200; Height: 0.02inch; Lead Free: Lead Free; Length: 1.55mm; Max Operating Temperature: 155°C; Military Standard: Not; Min Operating Temperature: -55°C; Mount: Surface Mount; Number of Pins: 2; Number of Terminations: 2; Package Quantity: 1; Packaging: Tape and Reel; Power Rating: 100mW; Radiation Hardening: No; REACH SVHC: Unknown; Termination: SMD/SMT; Tolerance: 5%; Voltage Rating (DC): 75V; Weight: 7.1E-05oz; Width: 0.033inch
pins: 1, 2

## DSC1001DI1-008.0000T
designator U??
on 8MHz XO (Standard) CMOS Oscillator 1.8 ~ 3.3V Standby (Power Down) 4-SMD, No Lead
footprint DSC1001DI1-008.0000TCT-ND
pins: 1 ~{STBY}, 2 GND, 3 OUT, 4 VDD

## GRJ188R71E224KE11D
designator C??, comment 220nF
0.22µF ±10% 25V Ceramic Capacitor X7R 0603 (1608 Metric); Manufacturer: Murata; Manufacturer Part Number: GRJ188R71E224KE11D; Capacitance: 220nF; Case Code (Imperial): 0603; Case Code (Metric): 1608; Case/Package: 0603; Category: Ceramic Capacitors; Features: Soft Termination; Length: 0.063inch; Max Operating Temperature: 125°C; Min Operating Temperature: -55°C; Mount: Surface Mount; Packaging: Tape and Reel; Thickness: 0.035inch; Tolerance: 10%; Voltage Rating: 25V; Width: 0.031inch
pins: 0, 1

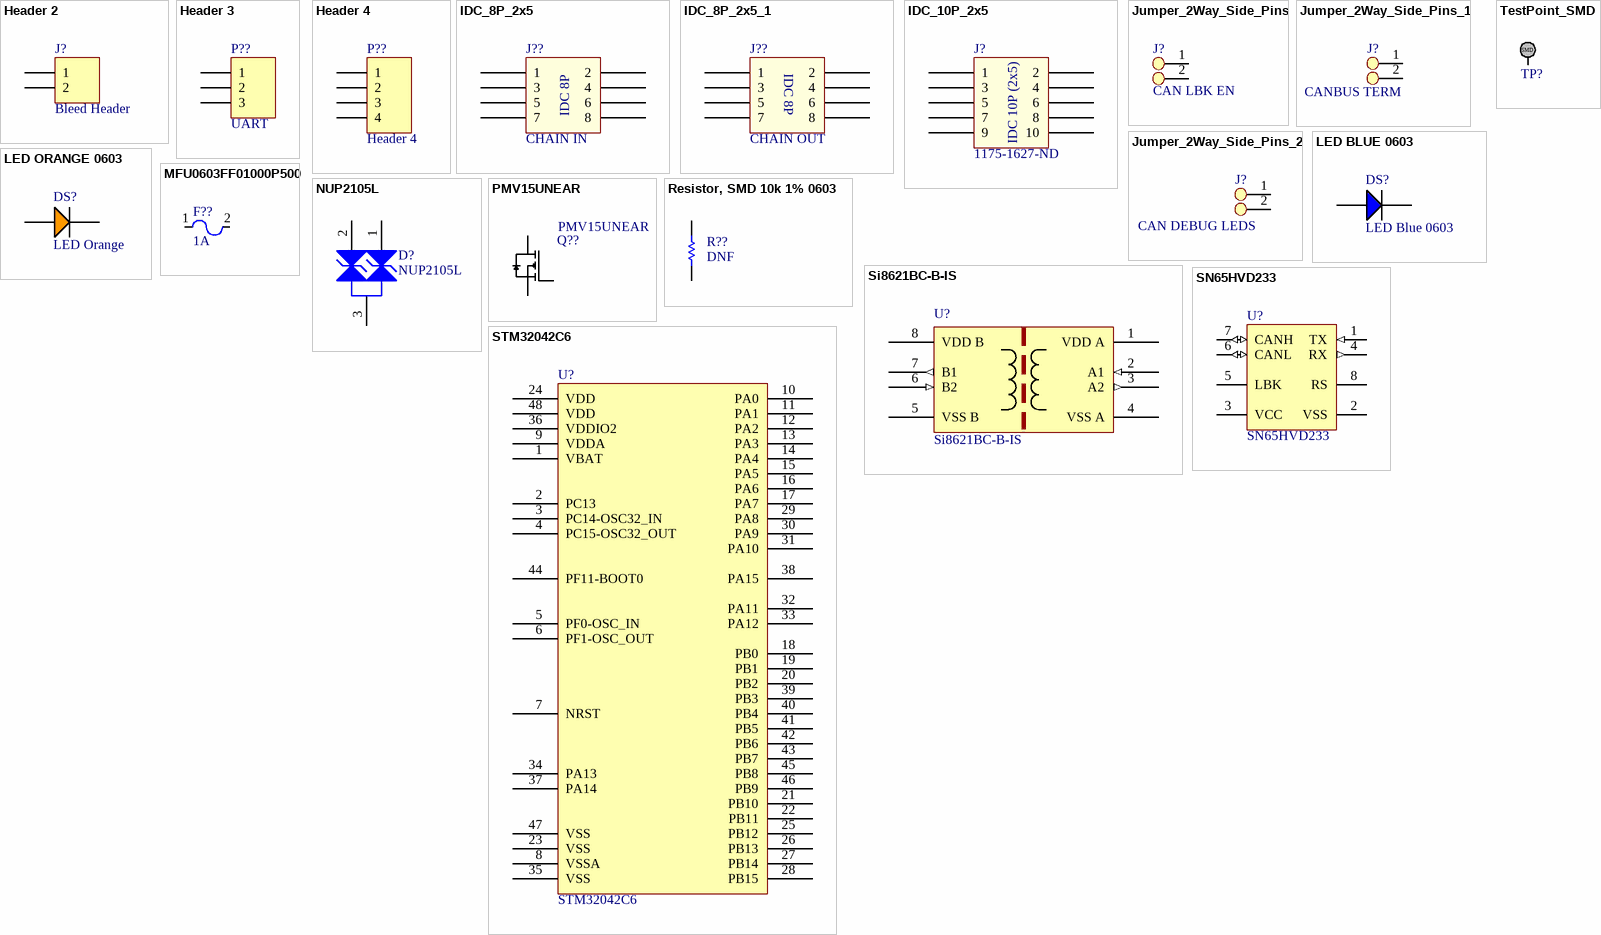
[diagram p1: symbols Header 2 to TestPoint_SMD]

## Header 2
designator J?, comment Bleed Header
Header, 2-Pin; LatestRevisionDate: 17-Jul-2002; LatestRevisionNote: Re-released for DXP Platform.; Publisher: Altium Limited
footprint HDR1X2 (Connector; Header; 2 Position)
signal-integrity model Connector
pins: 1, 2

## Header 3
designator P??, comment UART
Header, 3-Pin; LatestRevisionDate: 17-Jul-2002; LatestRevisionNote: Re-released for DXP Platform.; Publisher: Altium Limited
footprint HDR1X3 (Connector; Header; 3 Position)
signal-integrity model Connector
pins: 1, 2, 3

## Header 4
designator P??
Header, 4-Pin; LatestRevisionDate: 17-Jul-2002; LatestRevisionNote: Re-released for DXP Platform.; Publisher: Altium Limited
footprint HDR1X4 (Connector; Header; 4 Position)
signal-integrity model Connector
pins: 1, 2, 3, 4

## IDC_8P_2x5
designator J??, comment CHAIN IN
footprint IDC_8P
pins: 1, 2, 3, 4, 5, 6, 7, 8
text: IDC 8P

## IDC_8P_2x5_1
designator J??, comment CHAIN OUT
footprint IDC_8P
pins: 1, 2, 3, 4, 5, 6, 7, 8
text: IDC 8P

## IDC_10P_2x5
designator J?, comment 1175-1627-ND
footprint IDC_10P
pins: 1, 2, 3, 4, 5, 6, 7, 8, 9, 10
text: IDC 10P (2x5)

## Jumper_2Way_Side_Pins
designator J?, comment CAN LBK EN
Jumper_2Way_Pins
footprint Jumper_2Way_Pin
pins: 1, 2

## Jumper_2Way_Side_Pins_1
designator J?, comment CANBUS TERM
Jumper_2Way_Pins
footprint Jumper_2Way_Pin
pins: 1, 2

## Jumper_2Way_Side_Pins_2
designator J?, comment CAN DEBUG LEDS
Jumper_2Way_Pins
footprint Jumper_2Way_Pin
pins: 1, 2

## LED BLUE 0603
designator DS?, comment LED Blue 0603
footprint LED BLUE 0603
pins: 1 A, 2 C

## LED ORANGE 0603
designator DS?, comment LED Orange
footprint LED ORANGE 0603
pins: 1 A, 2 C

## MFU0603FF01000P500
designator F??, comment 1A
FUSE BOARD MOUNT 1A 32VDC 0603
pins: 1 "1A 32V", 2

## NUP2105L
designator D?
ComponentLink1Description: Datasheet; ComponentLink1URL: https://www.onsemi.cn/PowerSolutions/document/NUP2105L-D.PDF; Parameter 1: *; ComponentLink2Description: LCSC; ComponentLink2URL: https://lcsc.com/product-detail/TVS_ON-Semiconductor-NUP2105LT1G_C14486.html; ComponentLink3Description: Digikey; ComponentLink3URL: https://www.digikey.com.au/product-detail/en/on-semiconductor/SZNUP2105LT1G/SZNUP2105LT1GOSCT-ND/3487669
footprint NUP2105L
pins: 1, 2, 3

## PMV15UNEAR
designator Q??, comment Manufacturer Part Number: PMV15UNEAR  (hidden comment: MOSFET N)
MOSFET N-CH, 20V, SOT23; Manufacturer: Nexperia
footprint PMV15UNEAR
pins: D Drain, G Gate, S Source

## Resistor, SMD 10k 1% 0603
designator R??  value DNF  (hidden comment: Resistor, SMD 10k 1% 0603)
Manufacturer: Generic; MPN: Resistor, SMD 10k 1% 0603; Supplier 1: Mouser; Supplier Part Number 1: 603-RC0603FR-0710KL
footprint 0603-RES (Chip Resistor, 2-Leads, Body 1.60x0.80mm, IPC Medium Density)
pins: 1, 2

## Si8621BC-B-IS
designator U?
ComponentLink1Description: Digikey; ComponentLink1URL: https://www.digikey.com.au/product-detail/en/silicon-labs/SI8621BC-B-ISR/336-4774-1-ND/8611005; ComponentLink2Description: Datasheet; ComponentLink2URL: https://www.silabs.com/documents/public/data-sheets/si861x-2x-datasheet.pdf
pins: 1 VDD A, 2 A1 (in), 3 A2 (out), 4 VSS A, 5 VSS B, 6 B2 (in), 7 B1 (out), 8 VDD B

## SN65HVD233
designator U?
ComponentLink1Description: LCSC; ComponentLink1URL: https://lcsc.com/product-detail/CAN-ICs_Texas-Instruments_SN65HVD233DRG4_Texas-Instruments-Texas-Instruments-SN65HVD233DRG4_C61643.html; ComponentLink2Description: Digikey; ComponentLink2URL: https://www.digikey.com.au/product-detail/en/texas-instruments/SN65HVD233DR/296-35967-1-ND/4134960; ComponentLink3Description: Datasheet; ComponentLink3URL: https://www.ti.com/lit/ds/symlink/sn65hvd233.pdf?ts=1588560888178; ComponentLink4Description: Ti Product Page; ComponentLink4URL: https://www.ti.com/product/SN65HVD233
footprint SN65HVD233DR
pins: 1 TX (in), 2 VSS, 3 VCC, 4 RX (out), 5 LBK, 6 CANL (io), 7 CANH (io), 8 RS

## STM32042C6
designator U?
ARM® Cortex®-M0 STM32F0 Microcontroller IC 32-Bit 48MHz 32KB (32K x 8) FLASH 48-LQFP (7x7); ComponentLink1Description: Digikey; ComponentLink1URL: https://www.digikey.com.au/product-detail/en/stmicroelectronics/STM32F042C6T6TR/497-19319-1-ND/10063344; ComponentLink2Description: Datasheet; ComponentLink2URL: https://www.st.com/resource/en/datasheet/stm32f042k6.pdf
footprint STM32F042C6
pins: 1 VBAT, 2 PC13, 3 PC14-OSC32_IN, 4 PC15-OSC32_OUT, 5 PF0-OSC_IN, 6 PF1-OSC_OUT, 7 NRST, 8 VSSA, 9 VDDA, 10 PA0, 11 PA1, 12 PA2, 13 PA3, 14 PA4, 15 PA5, 16 PA6, 17 PA7, 18 PB0, 19 PB1, 20 PB2, 21 PB10, 22 PB11, 23 VSS, 24 VDD, 25 PB12, 26 PB13, 27 PB14, 28 PB15, 29 PA8, 30 PA9, 31 PA10, 32 PA11, 33 PA12, 34 PA13, 35 VSS, 36 VDDIO2, 37 PA14, 38 PA15, 39 PB3, 40 PB4, 41 PB5, 42 PB6, 43 PB7, 44 PF11-BOOT0, 45 PB8, 46 PB9, 47 VSS, 48 VDD

## TestPoint_SMD
designator TP?  (value not drawn)
footprint TestPointSMD
pins: 1
text: SMD